# Altium footprint library AUVic_PCB_Library_Diodes.PcbLib: 14 footprints
Each footprint in its own frame and in the unit in brackets; x right, y up, seen from the top. Pads: shape width x height; smd on the part's side, far side on the other; paste and mask are expansions set on the pad; w line width, h text height; cw(c..) or ccw(c..) is an arc to the next point about the centre after c.
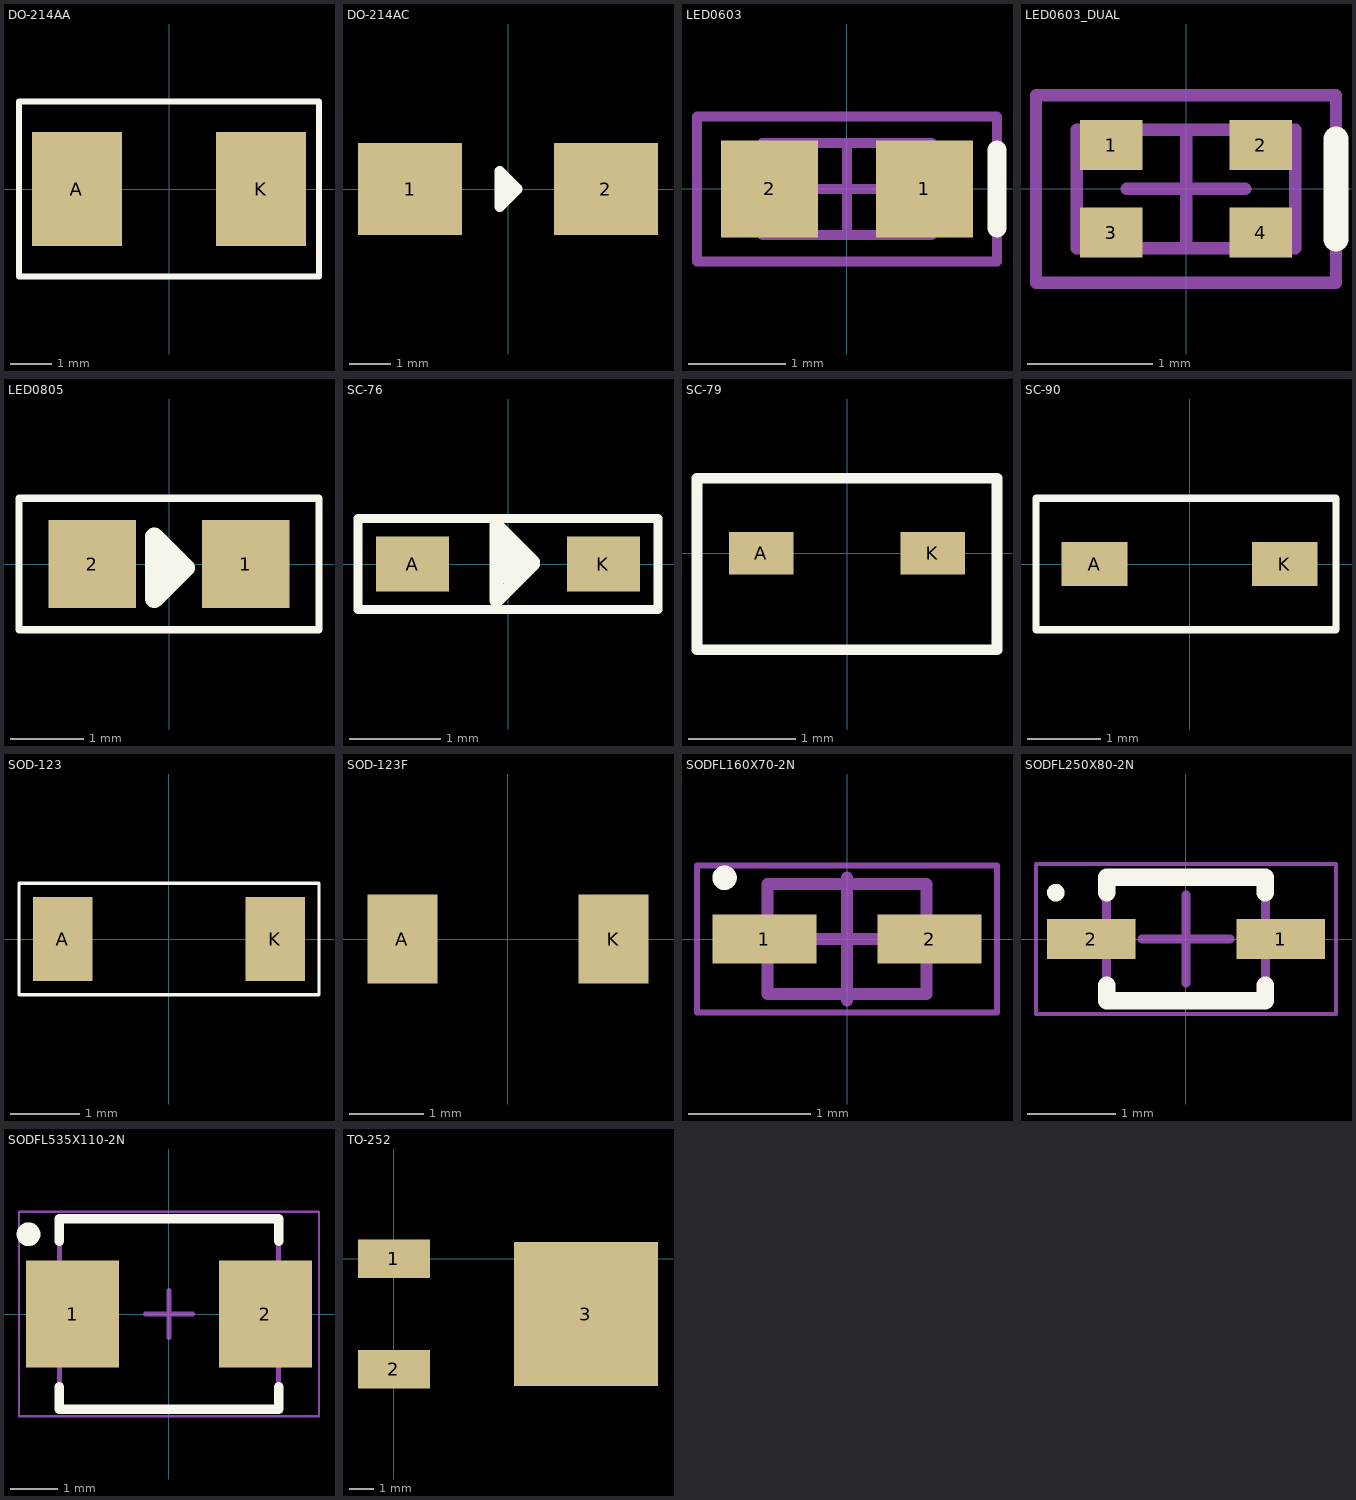
[diagram p0: the footprints below, top view; thin cyan lines are the x and y axes]

## DO-214AA [mil]
pads (2):
  rect 85x108 smd: A(-87,0) K(87,0)
Top Overlay:
  lines w5.91: -141.73,-82.68 -141.73,-22.64 -141.73,-12.54 -141.73,82.68 141.73,82.68 141.73,-82.68 -141.73,-82.68
3D body "User Library-DO-214AA_SMB.step": height 86.65, standoff -1.97, extent -102.85,-72.83 105.81,72.84

## DO-214AC [mm]
pads (2):
  rect 2.5x2.2 smd: 1(-2.35,0) 2(2.35,0)
Top Overlay:
  lines w0.254: -0.05,-0.175 -0.05,0.275 -0.2,0.425 ; -0.2,0.425 -0.2,-0.425 0.225,0 ; -0.2,0.425 0.225,0 ; -0.2,0.425 -0.2,0.425 ; 0.225,0 0.225,0
3D body "User Library-DO-214AC(SMA).step": height 2.26, standoff -0.03, extent -2.743,-1.397 2.743,1.397
3D body: height 1.27, standoff 0, extent 0.075,0.4 0.075,0.4
3D body: height 1.27, standoff 0, extent 0.4,0.65 0.4,0.65
3D body: height 1.27, standoff 0, extent 0.4,0.65 0.4,0.65

## LED0603 [mm]
pads (2):
  rect 1x1 smd: 1(0.8,0) 2(-0.8,0)
Top Overlay:
  lines w0.2: 1.55,-0.4 1.55,0.4
Body Top:
  lines w0.1: -0.875,-0.475 0.875,-0.475 0.875,0.475 -0.875,0.475 -0.875,-0.475
  text ".Designator" at -2.6,-0.467 h0.5
Courtyard Top:
  lines w0.1: -0.475,0 0.475,0 ; 0,-0.475 0,0.475 ; -1.55,-0.75 1.55,-0.75 1.55,0.75 -1.55,0.75 -1.55,-0.75
3D body "WL-SMCW_0603_LED.stp": height 0.69, standoff -0.01, extent -0.8,-0.4 0.8,0.4

## LED0603_DUAL [mm]
pads (4):
  rect 0.5x0.4 smd: 1(-0.6,0.35) 2(0.6,0.35) 3(-0.6,-0.35) 4(0.6,-0.35)
Top Overlay:
  lines w0.2: 1.2,-0.4 1.2,0.4
Body Top:
  lines w0.1: -0.875,-0.475 0.875,-0.475 0.875,0.475 -0.875,0.475 -0.875,-0.475
  text ".Designator" at -2.6,-0.467 h0.5
Courtyard Top:
  lines w0.1: -0.475,0 0.475,0 ; 0,-0.475 0,0.475 ; -1.2,-0.75 1.2,-0.75 1.2,0.75 -1.2,0.75 -1.2,-0.75
3D body "APHB1608.STEP": height 0.49, standoff -0.02, extent -0.8,-0.4 0.8,0.4

## LED0805 [mm]
pads (2):
  rect 1.2x1.2 smd: 1(1.05,0) 2(-1.05,0)
Top Overlay:
  lines w0.1: -2.05,-0.9 -2.05,0.3 -2.05,0.9 2.05,0.9 2.05,-0.9 -2.05,-0.9
  lines w0.254: -0.05,-0.225 -0.05,0.225 -0.2,0.375 ; -0.2,0.375 -0.2,0.375 ; -0.2,0.375 0.225,-0.05 ; -0.2,0.375 -0.2,-0.475 0.225,-0.05 ; 0.225,-0.05 0.225,-0.05

## SC-76 [mm]
pads (2):
  rect 0.8x0.6 smd: A(-1.05,0) K(1.05,0)
Top Overlay:
  lines w0.1: -1.65,-0.5 1.65,-0.5 1.65,0.5 -1.65,0.5 -1.65,0 -1.65,-0.5
  lines w0.152: 0.275,0 -0.125,-0.4 -0.125,0.425 0.275,0.025
  lines w0.229: 0.025,-0.075 0.025,0.175
  lines w0.305: 0.025,-0.075 0.1,0
3D body "User Library-SOD323.STEP": height 0.9, standoff -0.09, extent -1.25,-0.65 1.25,0.6

## SC-79 [mm]
pads (2):
  rect 0.6x0.4 smd: A(-0.8,0) K(0.8,0)
Top Overlay:
  lines w0.1: -1.4,-0.9 1.4,-0.9 1.4,0.7 -1.4,0.7 -1.4,-0.9
3D body "User Library-SC79.STEP": height 0.62, standoff 0, extent -0.85,-0.45 0.85,0.45

## SC-90 [mm]
pads (2):
  rect 0.9x0.6 smd: A(-1.3,0) K(1.3,0)
Top Overlay:
  lines w0.1: -2.1,-0.9 2,-0.9 2,0.9 -2.1,0.9 -2.1,0 -2.1,-0.9
3D body "User Library-SOD323F.step": height 0.75, standoff -0.01, extent -1.4,-0.675 1.4,0.675

## SOD-123 [mm]
pads (2):
  rect 0.85x1.2 smd: A(-1.525,0) K(1.525,0)
Top Overlay:
  lines w0.05: -2.15,-0.8 2.15,-0.8 2.15,0.8 -2.15,0.8 -2.15,0 -2.15,-0.8

## SOD-123F [mm]
pads (2):
  rect 0.95x1.2 smd: A(-1.425,0) K(1.425,0)
3D body "User Library-SOD123F.step": height 1.2, standoff -0.01, extent -1.875,-0.85 1.875,0.85

## SODFL160X70-2N [mm] "SC-79, SOD-523, SODFL, 2-Leads, Body 0.80x1.60mm, IPC Medium Density"
height 0.7
pads (2):
  rect 0.85x0.4 smd: 1(-0.675,0) 2(0.675,0)
Top Overlay:
  circle w0.1: c-1,0.5 r0.05
Body Top:
  lines w0.1: -0.65,-0.45 -0.65,0.45 0.65,0.45 0.65,-0.45 -0.65,-0.45
  text ".Designator" at -2.1,-0.333 h0.4
Courtyard Top:
  lines w0.05: -1.225,-0.6 -1.225,0.6 1.225,0.6 1.225,-0.6 -1.225,-0.6
  lines w0.1: -0.5,0 0.5,0 ; 0,-0.5 0,0.5
3D body "User Library-SOD-523F.step": height 0.7, standoff 0, extent -0.8,-0.399 0.8,0.399

## SODFL250X80-2N [mm] "SODFL, 2-Leads, Body 1.25x2.50mm, IPC Medium Density"
height 0.8
pads (2):
  rect 1x0.45 smd: 1(1.075,0) 2(-1.075,0)
Top Overlay:
  circle w0.1: c-1.475,0.525 r0.05
  lines w0.2: -0.9,-0.525 -0.9,-0.7 0.9,-0.7 0.9,-0.525 ; -0.9,0.525 -0.9,0.7 0.9,0.7 0.9,0.525
Body Top:
  lines w0.1: -0.9,-0.675 0.9,-0.675 0.9,0.675 -0.9,0.675 -0.9,-0.675
  text ".Designator" at -2.1,-0.333 h0.4
Courtyard Top:
  lines w0.05: -1.7,-0.85 1.7,-0.85 1.7,0.85 -1.7,0.85 -1.7,-0.85
  lines w0.1: -0.5,0 0.5,0 ; 0,-0.5 0,0.5
3D body "User Library-SOD323F.step": height 0.75, standoff -0.01, extent -1.4,-0.675 1.4,0.675

## SODFL535X110-2N [mm] "SODFL, 2-Leads, Body 3.63x5.35mm, IPC Medium Density"
height 1.1
pads (2):
  rect 1.95x2.25 smd: 1(-2.025,0) 2(2.025,0)
Top Overlay:
  circle w0.25: c-2.95,1.675 r0.125
  lines w0.2: -2.3,-1.525 -2.3,-2 2.3,-2 2.3,-1.525 ; -2.3,1.525 -2.3,2 2.3,2 2.3,1.525
Body Top:
  lines w0.1: -2.3,-1.975 -2.3,1.975 2.3,1.975 2.3,-1.975 -2.3,-1.975
  text ".Designator" at -3.1,-0.5 h0.6
Courtyard Top:
  lines w0.05: -3.15,-2.15 -3.15,2.15 3.15,2.15 3.15,-2.15 -3.15,-2.15
  lines w0.1: -0.5,0 0.5,0 ; 0,-0.5 0,0.5
3D body: height 1.1, standoff 0, extent -2.3,-1.975 2.3,1.975

## TO-252 [mm]
pads (3):
  rect 3x1.6 smd: 1(0,0) 2(0,-4.6)
  rect 6x6 smd: 3(8,-2.3)
3D body "User Library-DPAK_TO-252AA.step": height 2.37, standoff -0.03, extent -0.398,-5.667 9.702,1.067